# EAGLE library part LM555 (library F030NG)
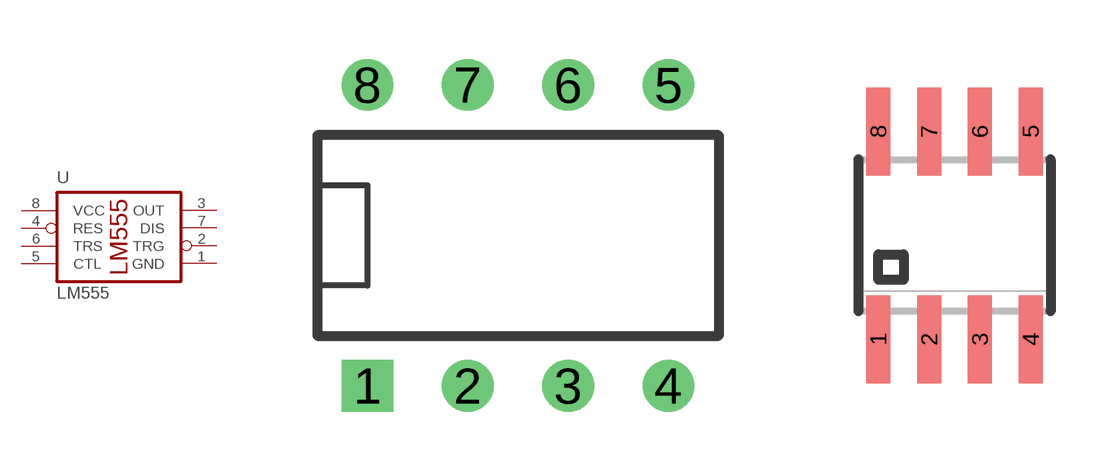
[diagram p8: symbol with the pads of DIL08; footprints DIL08, SO08]

Designator prefix U

## LM555-DIL8  [DIL08]
1  GND  pwr
2  TRG  pas
3  OUT  out
4  RES  pas
5  CTL  pas
6  TRS  pas
7  DIS  pas
8  VCC  pwr

## LM555-SO08  [SO08]
Pads as for DIL08

## Footprint DIL08 (pad centres in mm)
Dual In Line Package
drill 0.8 square: 1 -3.81,-3.81
drill 0.8: 2 -1.27,-3.81; 3 1.27,-3.81; 4 3.81,-3.81; 5 3.81,3.81; 6 1.27,3.81; 7 -1.27,3.81; 8 -3.81,3.81

## Footprint SO08 (pad centres in mm)
SMALL OUTLINE INTEGRATED CIRCUIT body 3.9 mm/JEDEC MS-012AA
smd 0.6 x 2.2: 1 -1.905,-2.6; 2 -0.635,-2.6; 3 0.635,-2.6; 4 1.905,-2.6; 5 1.905,2.6; 6 0.635,2.6; 7 -0.635,2.6; 8 -1.905,2.6